# Altium footprint library bnc50_5pins.PcbLib: 1 footprints
Each footprint in its own frame and in the unit in brackets; x right, y up, seen from the top. Pads: shape width x height; smd on the part's side, far side on the other; paste and mask are expansions set on the pad; w line width, h text height; cw(c..) or ccw(c..) is an arc to the next point about the centre after c.
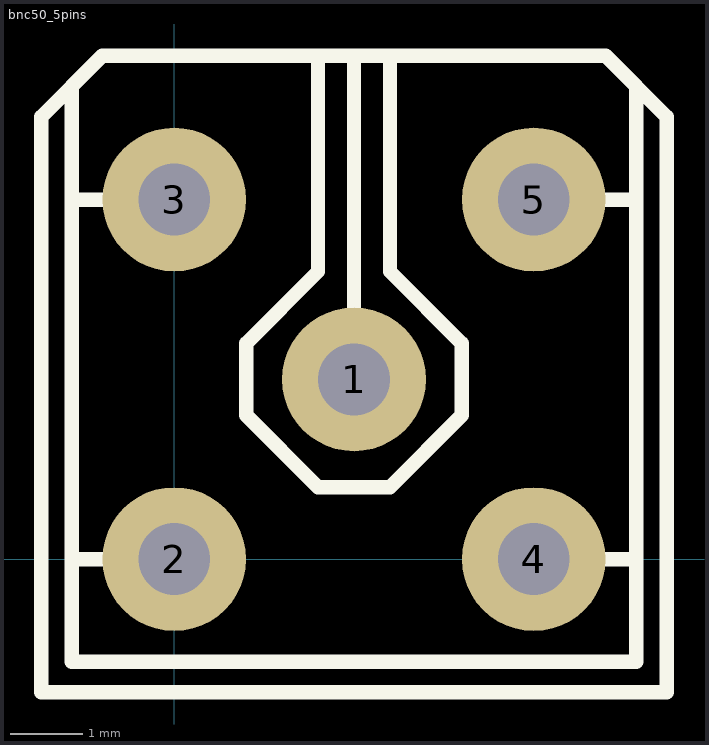
[diagram p0: the footprint, top view; thin cyan lines are the x and y axes]

## bnc50_5pins [mm]
pads (5):
  round 2 hole 1: 1(2.5,2.5) 2(0,0) 3(0,5) 4(5,0) 5(5,5)
Top Overlay:
  lines w0.2: -1.425,0 0,0 ; -1.425,5 0,5 ; -1.425,6.575 -1.425,-1.425 6.425,-1.425 6.425,6.575 ; 2,7 2,4 1,3 1,2 2,1 3,1 4,2 4,3 3,4 3,7 ; 2.5,2.5 2.5,7 ; 5,0 6.425,0 ; 5,5 6.425,5 ; -1.85,-1.85 -1.85,6.15 -1,7 6,7 6.85,6.15 6.85,-1.85 -1.85,-1.85
3D body: height 10.46, standoff -3.48, extent -2.961,-1.7 7.961,20.754